# EAGLE library part 140-08-FLACHBAND1.27 (library strasys_standard)
IDC Leiterplattenverbinder RM 2,54 Flachbandkabel 1,27 mm
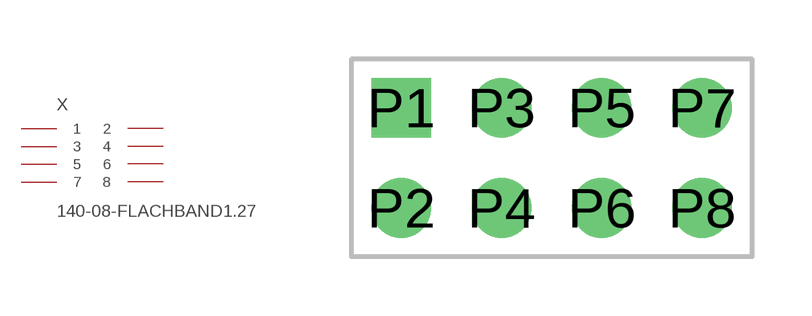
[diagram p14: symbol with the pads of 2,54_2X8; footprint 2,54_2X8]

Designator prefix X

## 140-08-FLACHBAND1.27  [2,54_2X8]
P1  1
P2  2
P3  3
P4  4
P5  5
P6  6
P7  7
P8  8

## Footprint 2,54_2X8 (pad centres in mm)
drill 1 square: P1 0,0
drill 1: P2 0,-2.54; P3 2.54,0; P4 2.54,-2.54; P5 5.08,0; P6 5.08,-2.54; P7 7.62,0; P8 7.62,-2.54